# Altium footprint library TPS55289RYQR.PcbLib: 1 footprints
Each footprint in its own frame and in the unit in brackets; x right, y up, seen from the top. Pads: shape width x height; smd on the part's side, far side on the other; paste and mask are expansions set on the pad; w line width, h text height; cw(c..) or ccw(c..) is an arc to the next point about the centre after c.
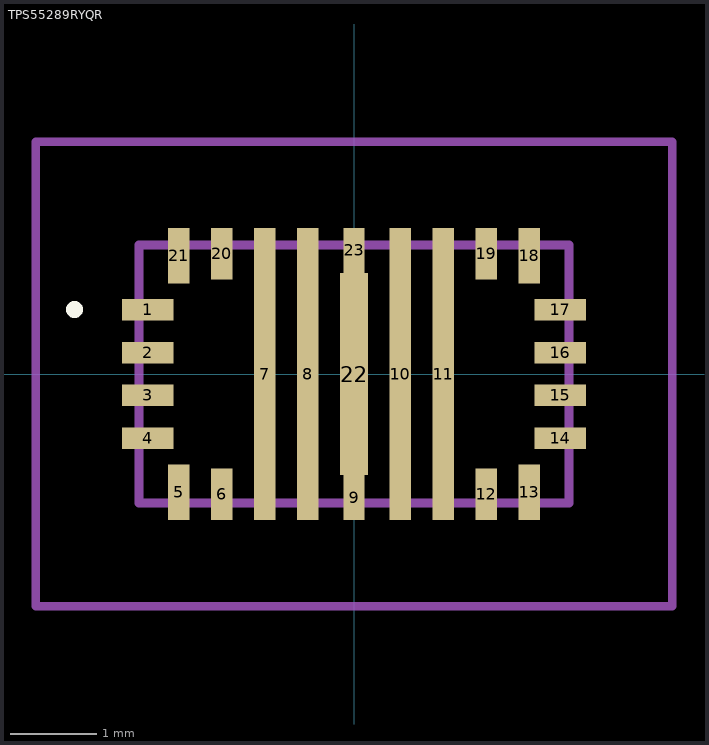
[diagram p0: the footprint, top view; thin cyan lines are the x and y axes]

## TPS55289RYQR [mm]
pads (23):
  rect 0.6x0.25 smd: 1(-2.4,0.75) 2(-2.4,0.25) 3(-2.4,-0.25) 4(-2.4,-0.75) 14(2.4,-0.75) 15(2.4,-0.25) 16(2.4,0.25) 17(2.4,0.75)
  rect 0.25x0.65 smd: 5(-2.04,-1.375) 13(2.04,-1.375) 18(2.04,1.375) 21(-2.04,1.375)
  rect 0.25x0.6 smd: 6(-1.54,-1.4) 12(1.54,-1.4) 19(1.54,1.4) 20(-1.54,1.4)
  rect 0.25x3.4 smd: 7(-1.04,0) 8(-0.54,0) 10(0.54,0) 11(1.04,0)
  rect 0.25x0.525 smd: 9(0,-1.438) 23(0,1.438)
  rect 0.33x2.35 smd: 22(0,0)
Top Overlay:
  lines w0.1: -3.3,0.75 -3.3,0.75 ; -3.3,0.75 ccw(c-3.25,0.75) -3.2,0.75 ; -3.3,0.75 cw(c-3.25,0.75) -3.2,0.75 ; -3.2,0.75 -3.2,0.75
Mechanical 15:
  lines w0.1: -2.5,-1.5 2.5,-1.5 2.5,1.5 -2.5,1.5 -2.5,-1.5
Mechanical 20:
  lines w0.1: -3.7,-2.7 3.7,-2.7 3.7,2.7 -3.7,2.7 -3.7,-2.7